# Altium footprint library cSLIM-SA.PcbLib: 47 footprints (part 1 of 3)
Each footprint in its own frame and in the unit in brackets; x right, y up, seen from the top. Pads: shape width x height; smd on the part's side, far side on the other; paste and mask are expansions set on the pad; w line width, h text height; cw(c..) or ccw(c..) is an arc to the next point about the centre after c.
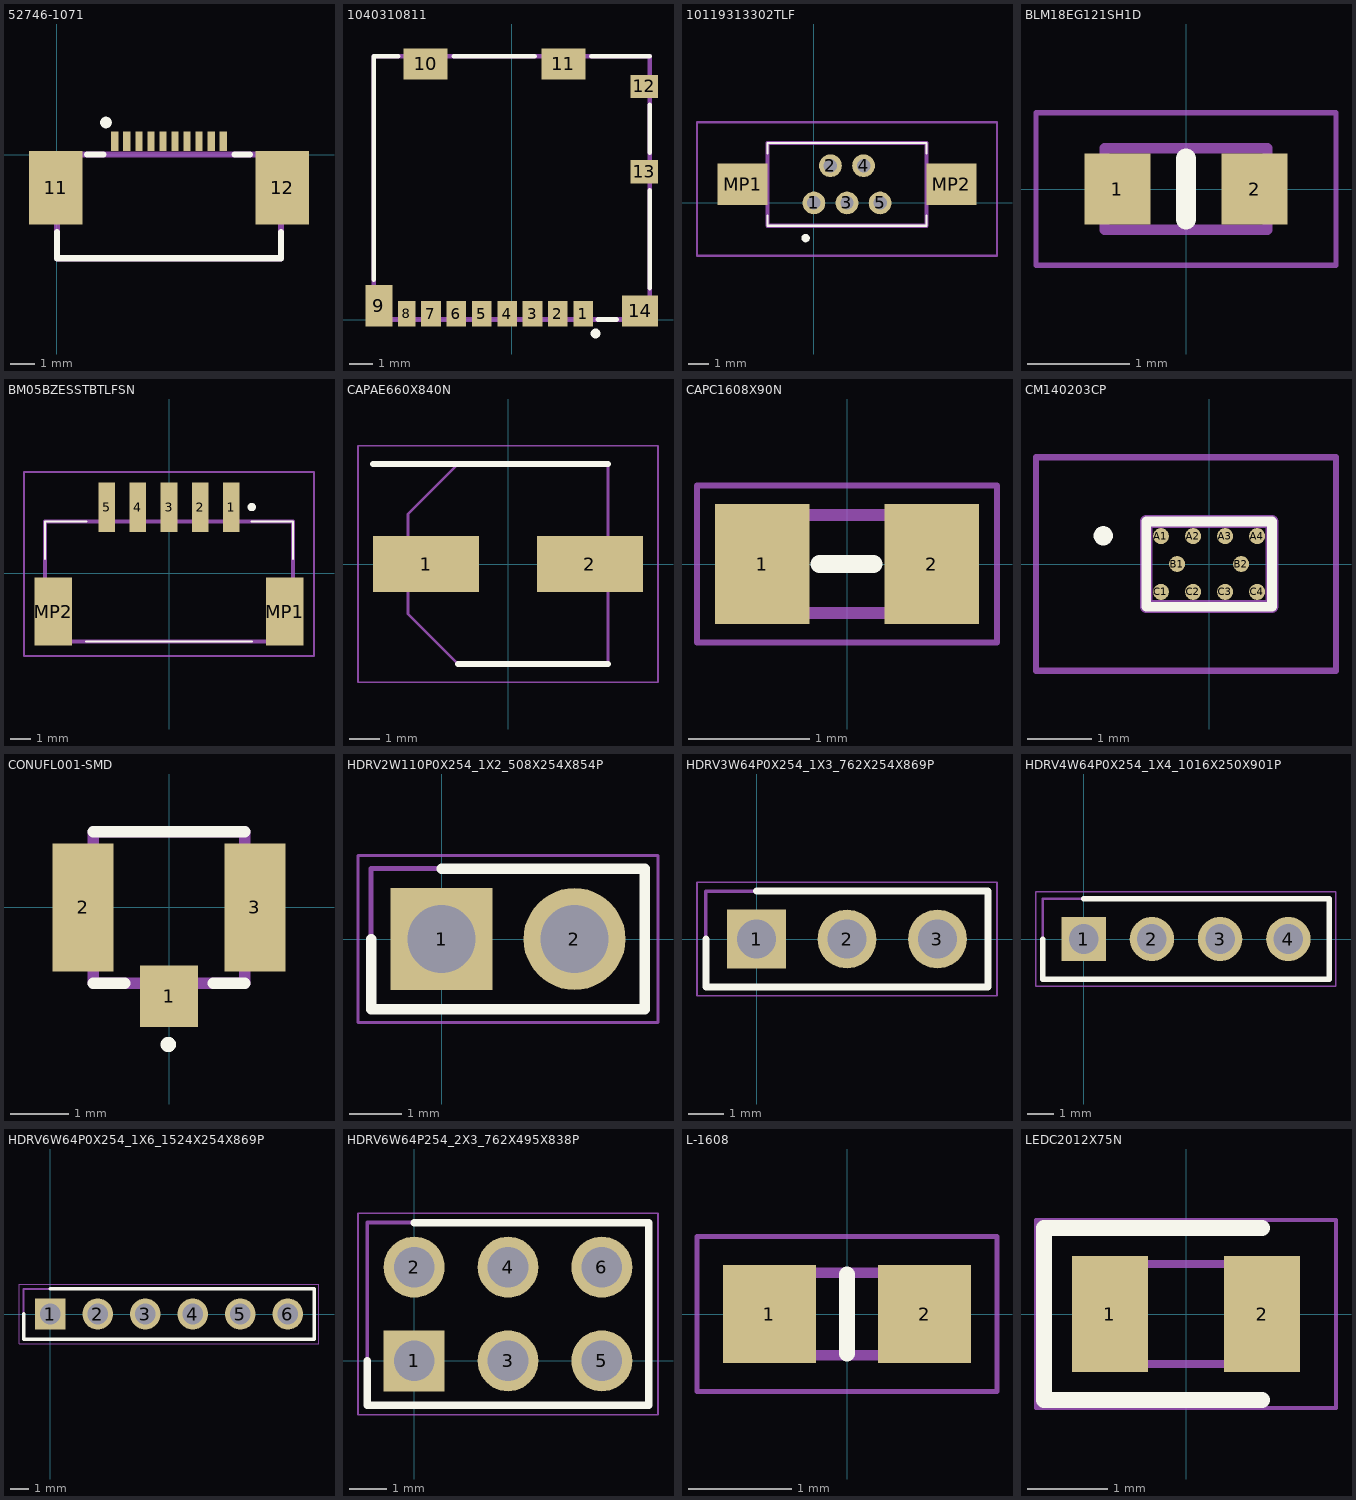
[diagram p0: the footprints below, top view; thin cyan lines are the x and y axes]

## 52746-1071 [mm]
pads (12):
  rect 0.3x0.8 smd: 1(2.4,0.556) 2(2.9,0.556) 3(3.4,0.556) 4(3.9,0.556) 5(4.4,0.556) 6(4.9,0.556) 7(5.4,0.556) 8(5.9,0.556) 9(6.4,0.556) 10(6.9,0.556)
  rect 2.2x3.05 smd: 11(-0.05,-1.369) 12(9.35,-1.369)
Top Overlay:
  circle w0.254: c2.035,1.331 r0.113
  lines w0.254: 0,-3.214 0,-4.3 9.3,-4.3 9.3,-3.214 ; 1.242,0 1.922,0 ; 7.374,0 8.011,0
Mechanical 13:
  lines w0.254: 0,-4.3 9.3,-4.3 9.3,0 0,0 0,-4.3
3D body "52746-1071.stp": height 2, standoff 0, extent -0.87,-5.9 10.23,0.7

## 1040310811 [mm]
pads (14):
  rect 0.85x1.1 smd: 1(3.105,0.25) 2(2.005,0.25) 3(0.905,0.25) 4(-0.195,0.25) 5(-1.295,0.25) 6(-2.395,0.25) 7(-3.495,0.25)
  rect 0.75x1.1 smd: 8(-4.545,0.25)
  rect 1.17x1.8 smd: 9(-5.755,0.6)
  rect 1.9x1.35 smd: 10(-3.73,11.075) 11(2.24,11.075)
  rect 1.2x1 smd: 12(5.74,10.1) 13(5.74,6.4)
  rect 1.55x1.35 smd: 14(5.565,0.375)
Top Overlay:
  circle w0.2: c3.634,-0.605 r0.113
  lines w0.2: -5.975,1.721 -5.975,11.4 -4.914,11.4 ; -2.5,11.4 1,11.4 ; 3.455,11.4 5.975,11.4 ; 3.739,0 4.56,0 ; 5.975,1.367 5.975,5.601 ; 5.975,7.216 5.975,9.297
Mechanical 13:
  lines w0.2: -5.975,0 5.975,0 5.975,11.4 -5.975,11.4 -5.975,0
3D body "104031-0811.stp": height 1.44, standoff -0.01, extent -5.875,0.117 6.075,11.517

## 10119313302TLF [mm]
pads (7):
  round 1.1 hole 0.65: 1(0,0) 2(0.8,1.8) 3(1.6,0) 4(2.4,1.8) 5(3.2,0)
  rect 2.4x2 smd: MP1(-3.45,0.9) MP2(6.65,0.9)
Top Overlay:
  lines w0.1: -2.25,-0.6 -2.25,-1.1 5.45,-1.1 5.45,-0.6 ; -2.25,2.4 -2.25,2.9 5.45,2.9 5.45,2.4
  lines w0.2: -0.5,-1.7 ccw(c-0.4,-1.7) -0.3,-1.7 ccw(c-0.4,-1.7) -0.5,-1.7
Mechanical 13:
  lines w0.2: -2.25,-1.1 5.45,-1.1 5.45,2.9 -2.25,2.9 -2.25,-1.1
Mechanical 15:
  lines w0.1: -5.65,-2.55 8.85,-2.55 8.85,3.9 -5.65,3.9 -5.65,-2.55
3D body "10119313-302TLF.stp": height 9.65, standoff -5, extent -4.45,-1.1 7.65,2.9

## BLM18EG121SH1D [mm]
pads (2):
  rect 0.65x0.7 smd: 1(-0.675,0) 2(0.675,0)
Top Overlay:
  lines w0.2: 0,-0.3 0,0.3
Mechanical 13:
  lines w0.1: -0.8,-0.4 0.8,-0.4 0.8,0.4 -0.8,0.4 -0.8,-0.4
Mechanical 15:
  lines w0.05: -1.475,-0.75 1.475,-0.75 1.475,0.75 -1.475,0.75 -1.475,-0.75
3D body "BLM18AG102SN1D.stp": height 1.05, standoff 0, extent -0.935,-0.4 0.935,0.4

## BM05BZESSTBTLFSN [mm]
pads (7):
  rect 0.8x2.4 smd: 1(3,3.2) 2(1.5,3.2) 3(0,3.2) 4(-1.5,3.2) 5(-3,3.2)
  rect 1.8x3.3 smd: MP1(5.6,-1.85) MP2(-5.6,-1.85)
Top Overlay:
  lines w0.1: -6,0.7 -6,2.5 -4,2.5 ; -4,-3.3 4,-3.3 ; 4,2.5 6,2.5 6,0.7
  lines w0.2: 4,3.1 ccw(c4,3.2) 4,3.3 ccw(c4,3.2) 4,3.1
Mechanical 13:
  lines w0.2: -6,-3.3 -6,2.5 6,2.5 6,-3.3 -6,-3.3
Mechanical 15:
  lines w0.1: -7,-4 -7,4.9 7,4.9 7,-4 -7,-4
3D body "BM05B-ZESS-TBT__LF__SN_.stp": height 7.6, standoff 0, extent -6.32,-3.32 6.32,4.32

## CAPAE660X840N [mm]
pads (2):
  rect 3.5x1.85 smd: 1(-2.7,0) 2(2.7,0)
Top Overlay:
  lines w0.2: -4.45,3.3 3.3,3.3 ; -1.65,-3.3 3.3,-3.3
Mechanical 13:
  lines w0.1: -3.3,-1.65 -3.3,1.65 -1.65,3.3 3.3,3.3 3.3,-3.3 -1.65,-3.3 -3.3,-1.65
Mechanical 15:
  lines w0.05: -4.95,-3.9 4.95,-3.9 4.95,3.9 -4.95,3.9 -4.95,-3.9
3D body "PCH1E101MCL4GS.stp": height 8.4, standoff 0, extent -3.75,-3.4 3.75,3.4

## CAPC1608X90N [mm]
pads (2):
  rect 0.78x0.99 smd: 1(-0.7,0) 2(0.7,0)
Top Overlay:
  lines w0.15: -0.228,0 0.22,0
Mechanical 13:
  lines w0.1: -0.8,-0.405 0.8,-0.405 0.8,0.405 -0.8,0.405 -0.8,-0.405
Mechanical 15:
  lines w0.05: -1.24,-0.65 1.24,-0.65 1.24,0.65 -1.24,0.65 -1.24,-0.65
3D body "06033G104ZAT2A.stp": height 0.9, standoff 0, extent -0.8,-0.405 0.8,0.405

## CM140203CP [mm]
pads (10):
  round 0.25 smd: A1(-0.75,0.435) A2(-0.25,0.435) A3(0.25,0.435) A4(0.75,0.435) B1(-0.5,0) B2(0.5,0) C1(-0.75,-0.435) C2(-0.25,-0.435) C3(0.25,-0.435) C4(0.75,-0.435)
Top Overlay:
  lines w0.15: -0.978,-0.667 0.982,-0.667 0.982,0.663 -0.978,0.663 -0.978,-0.667
  lines w0.2: -1.7,0.44 cw(c-1.65,0.44) -1.6,0.44 ; -1.7,0.44 ccw(c-1.65,0.44) -1.6,0.44 ; -1.7,0.44 cw(c-1.65,0.44) -1.6,0.44
Mechanical 13:
  lines w0.2: -0.98,-0.665 -0.98,0.665 0.98,0.665 0.98,-0.665 -0.98,-0.665
Mechanical 15:
  lines w0.1: -2.7,-1.665 -2.7,1.665 1.98,1.665 1.98,-1.665 -2.7,-1.665
3D body "CM1402-03CP.stp": height 0.82, standoff 0, extent -0.98,-0.665 0.98,0.665

## CONUFL001-SMD [mm]
pads (3):
  rect 1x1.05 smd: 1(0,-1.525)
  rect 1.05x2.2 smd: 2(-1.475,0) 3(1.475,0)
Top Overlay:
  circle w0.2: c-0.013,-2.353 r0.031
  lines w0.2: -1.3,-1.3 -0.761,-1.3 ; -1.3,1.3 1.3,1.3 ; 0.761,-1.3 1.3,-1.3
Mechanical 13:
  lines w0.2: -1.3,-1.3 -1.3,1.3 1.3,1.3 1.3,-1.3 -1.3,-1.3
3D body "CONUFL001-SMD-T.stp": height 1.25, standoff 0, extent -1.499,-1.505 1.499,1.594

## HDRV2W110P0X254_1X2_508X254X854P [mm]
pads (2):
  rect 1.95x1.95 hole 1.3: 1(0,0)
  round 1.95 hole 1.3: 2(2.54,0)
Top Overlay:
  lines w0.2: -1.345,0 -1.345,-1.345 3.885,-1.345 3.885,1.345 0,1.345
Mechanical 13:
  lines w0.1: -1.345,-1.345 3.885,-1.345 3.885,1.345 -1.345,1.345 -1.345,-1.345
Mechanical 15:
  lines w0.05: -1.595,-1.595 4.135,-1.595 4.135,1.595 -1.595,1.595 -1.595,-1.595
3D body "61300211121.stp": height 8.54, standoff -3.15, extent -1.27,-1.27 3.81,1.27

## HDRV3W64P0X254_1X3_762X254X869P [mm]
pads (3):
  rect 1.65x1.65 hole 1.1: 1(0,0)
  round 1.65 hole 1.1: 2(2.54,0) 3(5.08,0)
Top Overlay:
  lines w0.2: -1.42,0 -1.42,-1.345 6.5,-1.345 6.5,1.345 0,1.345
Mechanical 13:
  lines w0.1: -1.42,-1.345 -1.42,1.345 6.5,1.345 6.5,-1.345 -1.42,-1.345
Mechanical 15:
  lines w0.05: -1.67,-1.595 -1.67,1.595 6.75,1.595 6.75,-1.595 -1.67,-1.595
3D body "61300311121.stp": height 8.69, standoff -3.2, extent -1.27,-1.27 6.35,1.27

## HDRV4W64P0X254_1X4_1016X250X901P [mm]
pads (4):
  rect 1.65x1.65 hole 1.1: 1(0,0)
  round 1.65 hole 1.1: 2(2.54,0) 3(5.08,0) 4(7.62,0)
Top Overlay:
  lines w0.2: -1.524,0 -1.524,-1.504 9.144,-1.504 9.144,1.504 0,1.504
Mechanical 13:
  lines w0.1: -1.524,-1.504 -1.524,1.504 9.144,1.504 9.144,-1.504 -1.524,-1.504
Mechanical 15:
  lines w0.05: -1.774,-1.754 -1.774,1.754 9.394,1.754 9.394,-1.754 -1.774,-1.754
3D body "PH1-04-UA.stp": height 9.01, standoff -3.56, extent -1.27,-1.25 8.89,1.25

## HDRV6W64P0X254_1X6_1524X254X869P [mm]
pads (6):
  rect 1.65x1.65 hole 1.1: 1(0,0)
  round 1.65 hole 1.1: 2(2.54,0) 3(5.08,0) 4(7.62,0) 5(10.16,0) 6(12.7,0)
Top Overlay:
  lines w0.2: -1.42,0 -1.42,-1.345 14.12,-1.345 14.12,1.345 0,1.345
Mechanical 13:
  lines w0.1: -1.42,-1.345 -1.42,1.345 14.12,1.345 14.12,-1.345 -1.42,-1.345
Mechanical 15:
  lines w0.05: -1.67,-1.595 -1.67,1.595 14.37,1.595 14.37,-1.595 -1.67,-1.595
3D body "61300611121.stp": height 8.69, standoff -3.2, extent -1.27,-1.27 13.97,1.27

## HDRV6W64P254_2X3_762X495X838P [mm]
pads (6):
  rect 1.65x1.65 hole 1.1: 1(0,0)
  round 1.65 hole 1.1: 2(0,2.54) 3(2.54,0) 4(2.54,2.54) 5(5.08,0) 6(5.08,2.54)
Top Overlay:
  lines w0.2: -1.27,0 -1.27,-1.205 6.35,-1.205 6.35,3.745 0,3.745
Mechanical 13:
  lines w0.1: -1.27,-1.205 6.35,-1.205 6.35,3.745 -1.27,3.745 -1.27,-1.205
Mechanical 15:
  lines w0.05: -1.52,-1.455 6.6,-1.455 6.6,3.995 -1.52,3.995 -1.52,-1.455
3D body "TSW-103-08-S-D.stp": height 8.38, standoff -5.08, extent -1.27,-1.205 6.35,3.745

## L-1608 [mm]
pads (2):
  rect 0.9x0.95 smd: 1(-0.75,0) 2(0.75,0)
Top Overlay:
  lines w0.152: 0,-0.381 0,0.381
Mechanical 13:
  lines w0.1: -0.775,-0.4 0.775,-0.4 0.775,0.4 -0.775,0.4 -0.775,-0.4
Mechanical 15:
  lines w0.05: -1.45,-0.75 1.45,-0.75 1.45,0.75 -1.45,0.75 -1.45,-0.75
3D body "CPF0603B4K75E1.stp": height 0.55, standoff 0, extent -0.775,-0.4 0.775,0.4

## LEDC2012X75N [mm]
pads (2):
  rect 0.95x1.45 smd: 1(-0.95,0) 2(0.95,0)
Top Overlay:
  lines w0.2: 0.95,-1.075 -1.775,-1.075 -1.775,1.075 0.95,1.075
Mechanical 13:
  lines w0.1: -1,0.208 -0.583,0.625 ; -1,-0.625 1,-0.625 1,0.625 -1,0.625 -1,-0.625
Mechanical 15:
  lines w0.05: -1.875,-1.175 1.875,-1.175 1.875,1.175 -1.875,1.175 -1.875,-1.175